# Altium footprint library diode.PcbLib: 26 footprints (part 2 of 2)
Each footprint in its own frame and in the unit in brackets; x right, y up, seen from the top. Pads: shape width x height; smd on the part's side, far side on the other; paste and mask are expansions set on the pad; w line width, h text height; cw(c..) or ccw(c..) is an arc to the next point about the centre after c.
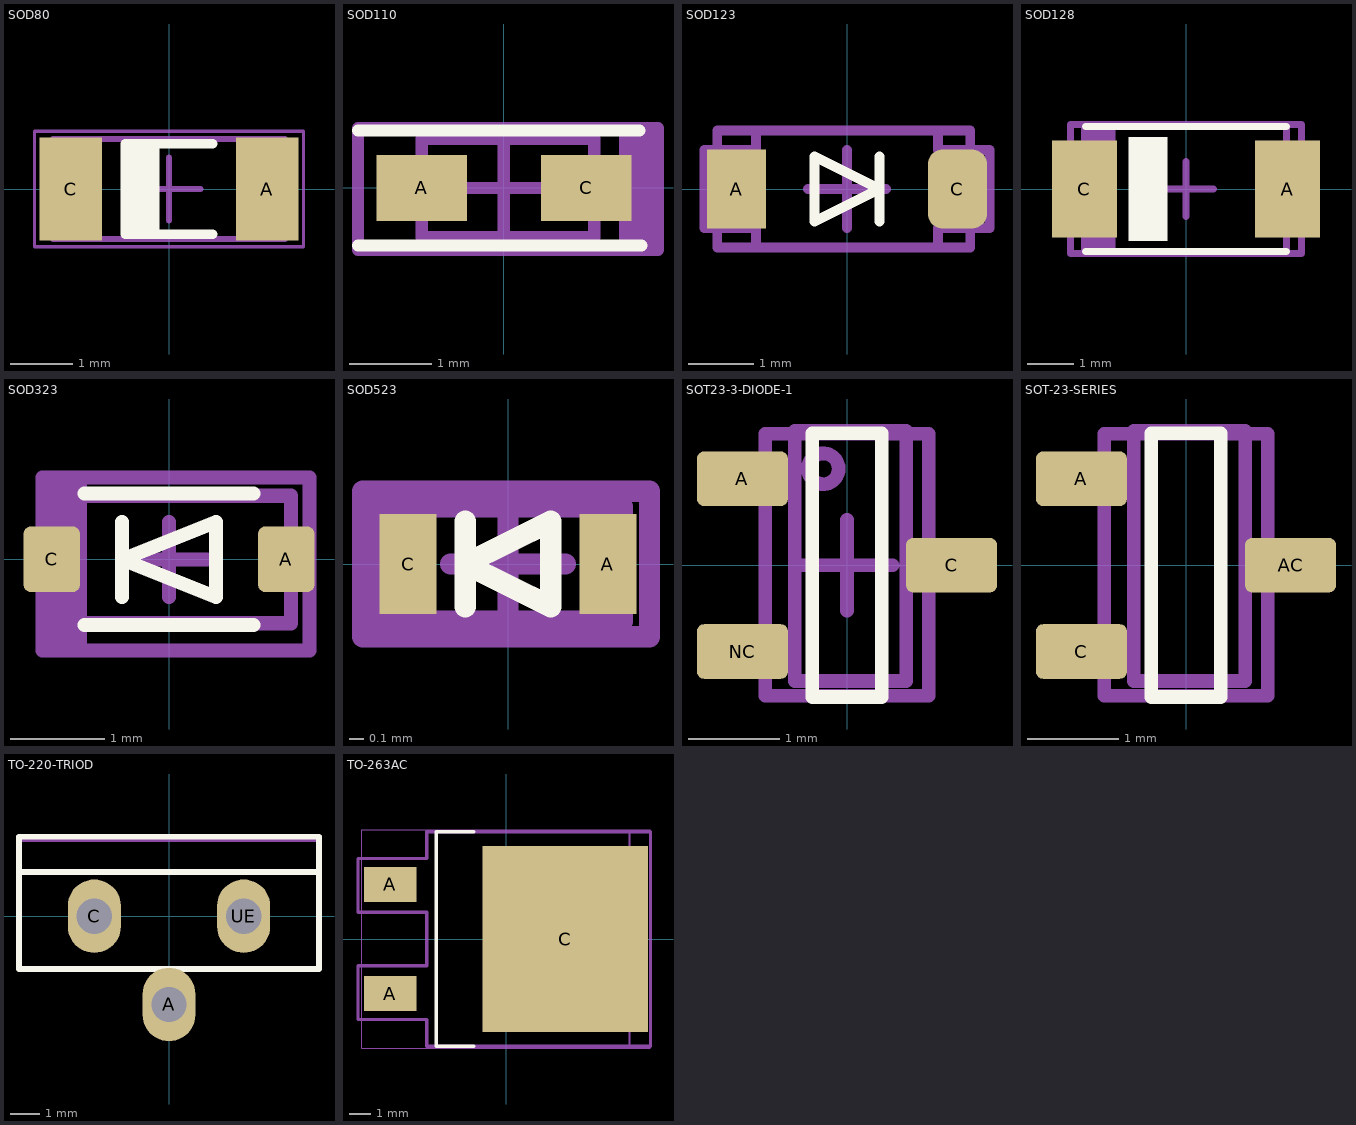
[diagram p1: the footprints below, top view; thin cyan lines are the x and y axes]

## SOD80 [mm] "MELF Diode, 2-Leads, Body 3,50x1,50mm, IPC High Density"
height 1.6
pads (2):
  rect 1x1.65 smd: A(1.575,0) C(-1.575,0)
Top Overlay:
  rectangle: -0.7,-0.725 -0.15,0.725
  lines w0.15: 0.7,-0.725 -0.7,-0.725 -0.7,0.725 0.7,0.725
  text "." at -2,1.3 h0.1
Top Courtyard:
  lines w0.05: -2.15,-0.925 2.15,-0.925 2.15,0.925 -2.15,0.925 -2.15,-0.925
  lines w0.1: -0.5,0 0.5,0 ; 0,-0.5 0,0.5
Mechanical 13:
  lines w0.1: -1.85,-0.8 1.85,-0.8 1.85,0.8 -1.85,0.8 -1.85,-0.8
3D body "SOD80.step": height 1.5, standoff 0.01, extent -1.75,-0.749 1.75,0.749

## SOD110 [mm]
pads (2):
  rect 1.1x0.8 smd: A(-1,0) C(1,0)
Top Overlay:
  lines w0.15: -1.775,-0.7 1.675,-0.7 ; -1.775,0.7 1.65,0.7
  text "." at 2,-0.5 h0.1
Top Courtyard:
  lines w0.15: -0.6,0 0.6,0 ; 0,-0.6 0,0.6 ; -1,-0.6 -1,0.6 1.1,0.6 1.1,-0.6 -1,-0.6
Mechanical 29:
  rectangle: 1.4,-0.75 1.875,0.725
  lines w0.15: -1.775,-0.75 1.875,-0.75 1.875,0.725 -1.775,0.725 -1.775,-0.75
3D body "SOD110.STEP": height 1.7, standoff 0, extent -1.05,-0.65 1.05,0.65

## SOD123 [mm]
height 3
pads (2):
  rect 0.91x1.22 smd: A(-1.7,0)
  rrect50% 0.91x1.22 smd: C(1.7,0)
Top Overlay:
  lines w0.15: 0.5,-0.5 0.5,0.5 ; -0.5,-0.5 -0.5,0.5 0.5,0 -0.5,-0.5
  text "." at 2.6,0.9 h0.1
Top Courtyard:
  lines w0.15: -0.6,0 0.6,0 ; 0,-0.6 0,0.6 ; -2,-0.9 -2,0.9 1.9,0.9 1.9,-0.9 -2,-0.9
Top 3D Body:
  lines w0.15: -2.2,-0.6 -1.4,-0.6 -1.4,-0.9 0,-0.9 1.4,-0.9 1.4,-0.6 2.2,-0.6 2.2,0.6 1.4,0.6 1.4,0.9 0,0.9 -1.4,0.9 -1.4,0.6 -2.2,0.6 -2.2,-0.6
3D body "sod_123.stp": height 1.22, standoff -0.03, extent -1.929,-0.9 1.929,0.9

## SOD128 [mm] "SOD128, 2-Leads, Body 2,50x4,70mm, IPC Medium Density"
height 1.1
pads (2):
  rect 1.4x2.1 smd: A(2.2,0) C(-2.2,0)
Top Overlay:
  rectangle: -1.25,-1.125 -0.4,1.125
  lines w0.15: -2.175,-1.35 0,-1.35 2.175,-1.35 ; -2.175,1.35 0,1.35 2.175,1.35
  text "." at -2.7,1.5 h0.1
Top Courtyard:
  lines w0.15: -0.6,0 0.6,0 ; 0,-0.6 0,0.6 ; -2.5,-1.4 -2.5,1.4 2.5,1.4 2.5,-1.4 -2.5,-1.4
Mechanical 29:
  rectangle: -2.2,-1.375 -1.525,1.375
  lines w0.15: -2.2,-1.35 -2.2,1.35 2.175,1.35 2.175,-1.35 -2.2,-1.35
3D body "SOD128.STEP": height 1.1, standoff -0.01, extent -2.5,-1.35 2.5,1.35

## SOD323 [mm] "SOD-323; 2 Leads; Body 1.8 x 1.35 mm, (LxW)"
height 1.15
pads (2):
  rrect25% 0.6x0.7 smd: A(1.25,0) C(-1.25,0)
Top Overlay:
  lines w0.15: -0.9,-0.7 0.9,-0.7 ; -0.9,0.7 0.9,0.7 ; -0.5,-0.4 -0.5,0.4 ; -0.5,0 0.5,-0.4 0.5,0.4 -0.5,0
  text "." at -1.4,0.75 h0.1
Top Courtyard:
  lines w0.15: -0.4,0 0.4,0 ; 0,-0.4 0,0.4 ; -1.3,-0.682 1.3,-0.682 1.3,0.678 -1.3,0.678 -1.3,-0.682
Mechanical 29:
  rectangle: -1.35,-0.975 -0.875,0.875
  lines w0.15: -1.35,-0.975 1.5,-0.975 1.5,0.875 -1.35,0.875 -1.35,-0.975
3D body "SOD323.STEP": height 1.1, standoff 0, extent -1.3,-0.675 1.3,0.675

## SOD523 [mm] "SODFL, 2-Leads, Body 0,80x1,60mm, IPC Medium Density"
height 0.65
pads (2):
  rect 0.4x0.7 smd: A(0.7,0) C(-0.7,0)
Top Overlay:
  lines w0.15: -0.3,-0.3 -0.3,0.3 ; -0.3,0 0.3,-0.3 0.3,0.3 -0.3,0
  text "." at -1.2,0.6 h0.1
Top Courtyard:
  lines w0.15: -0.4,0 0.4,0 ; 0,-0.4 0,0.4 ; -0.8,-0.4 -0.8,0.4 0.8,0.4 0.8,-0.4 -0.8,-0.4
Mechanical 29:
  rectangle: -1.016,-0.508 -0.686,0.508
  lines w0.15: -1.016,-0.508 -1.016,0.508 0.991,0.508 0.991,-0.508 -1.016,-0.508
3D body "SOD523.STEP": height 0.65, standoff 0, extent -0.825,-0.4 0.825,0.4

## SOT23-3-DIODE-1 [mm] "SOT23, 3 pin"
height 1.003
pads (3):
  rrect25% 1x0.6 smd: A(-1.15,0.95) C(1.15,0) NC(-1.15,-0.95)
Top Overlay:
  lines w0.15: -0.381,-1.45 -0.381,1.45 0.381,1.45 0.381,-1.45 -0.381,-1.45
  text "." at -1.5,1.75 h0.1
Top Courtyard:
  lines w0.15: -0.5,0 0,0 ; 0,-0.5 0,0 ; 0,0.5 0,0 ; 0.5,0 0,0 ; -0.9,-1.436 -0.9,1.446 0.9,1.446 0.9,-1.436 -0.9,-1.436
Mechanical 13:
  circle w0.15: c-0.26,1.06 r0.169
Mechanical 29:
  lines w0.15: -0.575,-1.075 -1.4,-1.075 -1.4,-0.8 -0.575,-0.8 ; -0.575,0.8 -1.4,0.8 -1.4,1.075 -0.575,1.075 ; -0.575,-1.275 -0.575,1.475 0.65,1.475 0.65,-1.275 -0.575,-1.275 ; 0.65,-0.15 0.65,0.125 1.475,0.125 1.475,-0.15 0.65,-0.15
3D body "SOT23-3.STEP": height 1.29, standoff -0.01, extent -1.4,-1.45 1.4,1.45

## SOT-23-SERIES [mm] "SOT23, 3 pin"
height 1.003
pads (3):
  rrect25% 1x0.6 smd: A(-1.15,0.95) AC(1.15,0) C(-1.15,-0.95)
Top Overlay:
  lines w0.15: -0.381,-1.45 0.381,-1.45 0.381,1.45 -0.381,1.45 -0.381,-1.45
  text "." at -1.5,1.75 h0.1
Top Courtyard:
  lines w0.15: -0.9,-1.436 0.9,-1.436 0.9,1.446 -0.9,1.446 -0.9,-1.436
Mechanical 29:
  lines w0.15: -0.575,-1.075 -1.4,-1.075 -1.4,-0.8 -0.575,-0.8 ; -0.575,0.8 -1.4,0.8 -1.4,1.075 -0.575,1.075 ; -0.575,-1.275 0.65,-1.275 0.65,1.475 -0.575,1.475 -0.575,-1.275 ; 0.65,-0.15 1.475,-0.15 1.475,0.125 0.65,0.125 0.65,-0.15
3D body "SOT23-3.STEP": height 1.29, standoff -0.01, extent -1.4,-1.45 1.4,1.45

## TO-220-TRIOD [mm]
pads (3):
  oval 1.8x2.5 hole 1.2: A(0,-3) C(-2.54,0) UE(2.54,0)
Top Overlay:
  lines w0.2: -5.1,1.5 5.1,1.5 ; -5.1,-1.8 5.1,-1.8 5.1,2.7 -5.1,2.7 -5.1,-1.8
Top Courtyard:
  lines w0.15: -5.1,-1.8 -5.1,2.6 5.1,2.6 5.1,-1.8 -5.1,-1.8
Mechanical 29:
  lines w0.1: 5.1,1.5 -5.1,1.5 -5.1,2.7 ; -5.1,2.7 -5.1,-1.8 5.1,-1.8 5.1,2.7 -5.1,2.7
  text ".Designator" at -3.5,-0.6 h1
3D body "TO-220-4.STEP": height 25.06, standoff -3.74, extent -5.1,-1.8 5.1,2.7

## TO-263AC [mm] "TO, 3-Pads, Body 7,60x8,36mm (max), IPC High Density"
height 1.8
pads (3):
  rect 2.45x1.65 smd: A(-5.4,-2.54) A(-5.4,2.54)
  rect 7.7x8.65 smd: C(2.75,0)
Top Overlay:
  lines w0.15: -1.5,-5 -3.25,-5 -3.25,5 -1.5,5
  text "." at -5.367,4.199 h0.1
Top Courtyard:
  lines w0.05: -6.725,-5.1 -6.725,5.1 6.725,5.1 6.725,-5.1 -6.725,-5.1
  lines w0.15: -6.9,-3.75 -6.9,-1.25 -3.7,-1.25 -3.7,1.25 -6.9,1.25 -6.9,3.75 -3.7,3.75 -3.7,5 6.725,5 6.725,-5 -3.7,-5 -3.7,-3.75 -6.9,-3.75
Mechanical 13:
  lines w0.1: -3.25,-5 -3.25,5 5.75,5 5.75,-5 -3.25,-5
3D body "TO-263AC.step": height 1.81, standoff 0, extent -6.2,-5 6.43,5